# Altium footprint library ROX3SJ220R.PCBLIB: 1 footprints
Each footprint in its own frame and in the unit in brackets; x right, y up, seen from the top. Pads: shape width x height; smd on the part's side, far side on the other; paste and mask are expansions set on the pad; w line width, h text height; cw(c..) or ccw(c..) is an arc to the next point about the centre after c.
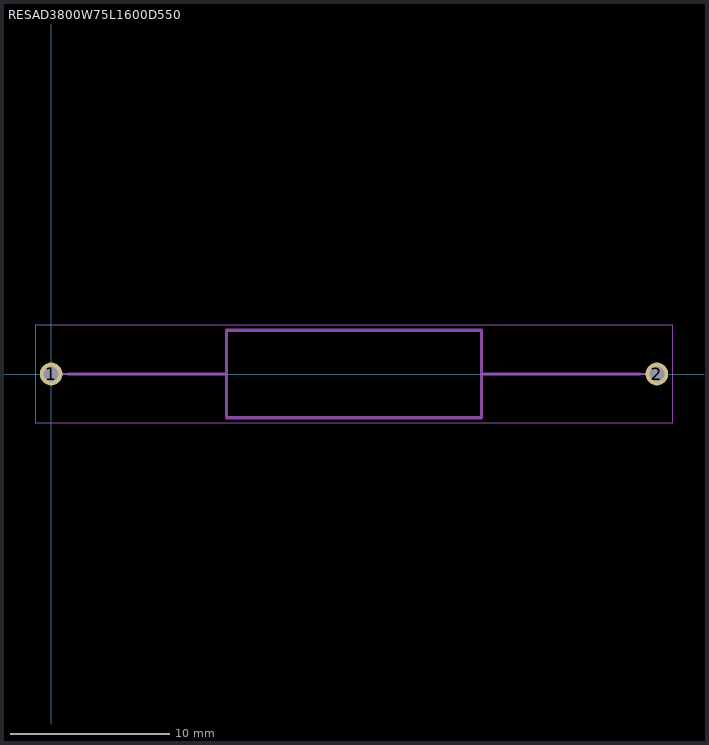
[diagram p0: the footprint, top view; thin cyan lines are the x and y axes]

## RESAD3800W75L1600D550 [mm]
pads (2):
  round 1.425 / inner round 1.524 / far side round 1.425 hole 0.95: 1(0,0) 2(38,0)
Mechanical 8:
  lines w0.05: -0.962,-3.1 38.963,-3.1 38.963,3.1 -0.962,3.1 -0.962,-3.1
  lines w0.1: 0,0 11,0 ; 27,0 38,0 ; 11,-2.75 27,-2.75 27,2.75 11,2.75 11,-2.75
Mechanical 22:
  lines w0.2: 1.062,0 11,0 ; 27,0 36.938,0 ; 11,-2.75 27,-2.75 27,2.75 11,2.75 11,-2.75